# EAGLE library part INA116 (library linear)
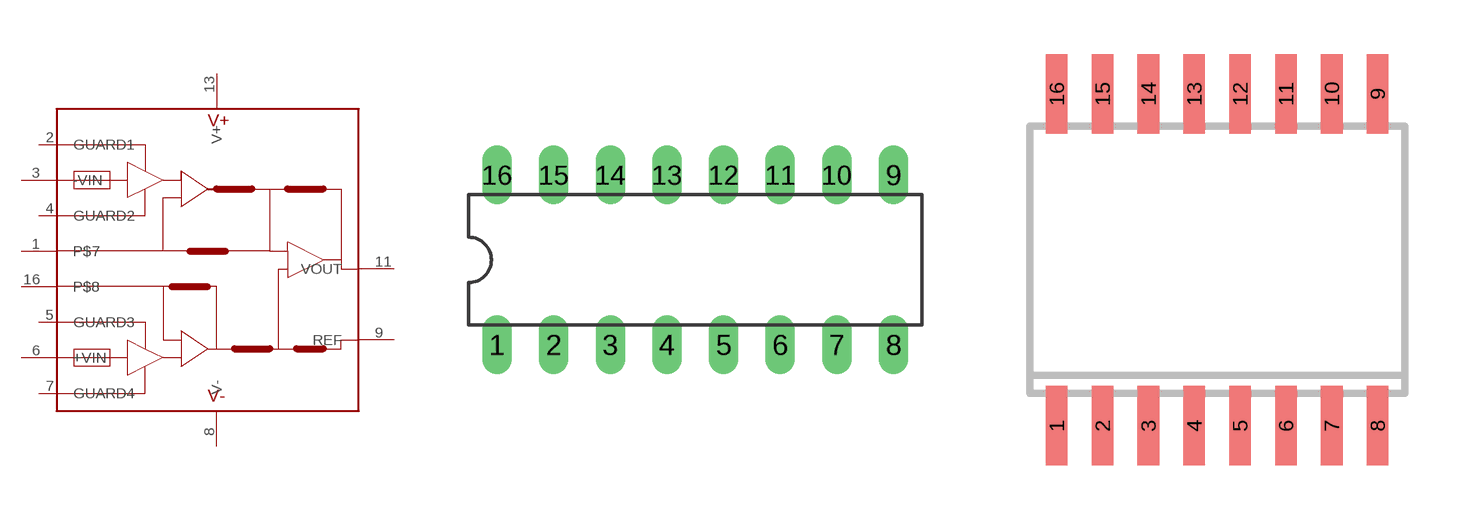
[diagram p216: symbol with the pads of DIL16; footprints DIL16, SO16L]

Designator prefix IC

## INA116DIL16  [DIL16]
1  P$7  hiz
2  GUARD1  hiz
3  -VIN  hiz
4  GUARD2  hiz
5  GUARD3  hiz
6  +VIN  hiz
7  GUARD4  hiz
8  V-  sup
9  REF  pas
11  VOUT  out
13  V+  sup
16  P$8  hiz

## INA116SMD_16W  [SO16L]
Pads as for DIL16

## Footprint DIL16 (pad centres in mm)
Dual In Line Package
drill 0.813 long: 1 -8.89,-3.81; 2 -6.35,-3.81; 3 -3.81,-3.81; 4 -1.27,-3.81; 5 1.27,-3.81; 6 3.81,-3.81; 7 6.35,-3.81; 8 8.89,-3.81; 9 8.89,3.81; 10 6.35,3.81; 11 3.81,3.81; 12 1.27,3.81; 13 -1.27,3.81; 14 -3.81,3.81; 15 -6.35,3.81; 16 -8.89,3.81

## Footprint SO16L (pad centres in mm)
Small Outline Package 16 large
smd 0.6 x 2.2: 1 -4.445,-4.6; 2 -3.175,-4.6; 3 -1.905,-4.6; 4 -0.635,-4.6; 5 0.635,-4.6; 6 1.905,-4.6; 7 3.175,-4.6; 8 4.445,-4.6; 9 4.445,4.6; 10 3.175,4.6; 11 1.905,4.6; 12 0.635,4.6; 13 -0.635,4.6; 14 -1.905,4.6; 15 -3.175,4.6; 16 -4.445,4.6